# Altium schematic symbol library AD9959_V1_Library.SchLib: 19 symbols
Pins are listed as number, name and electrical type; pins without a type are passive.

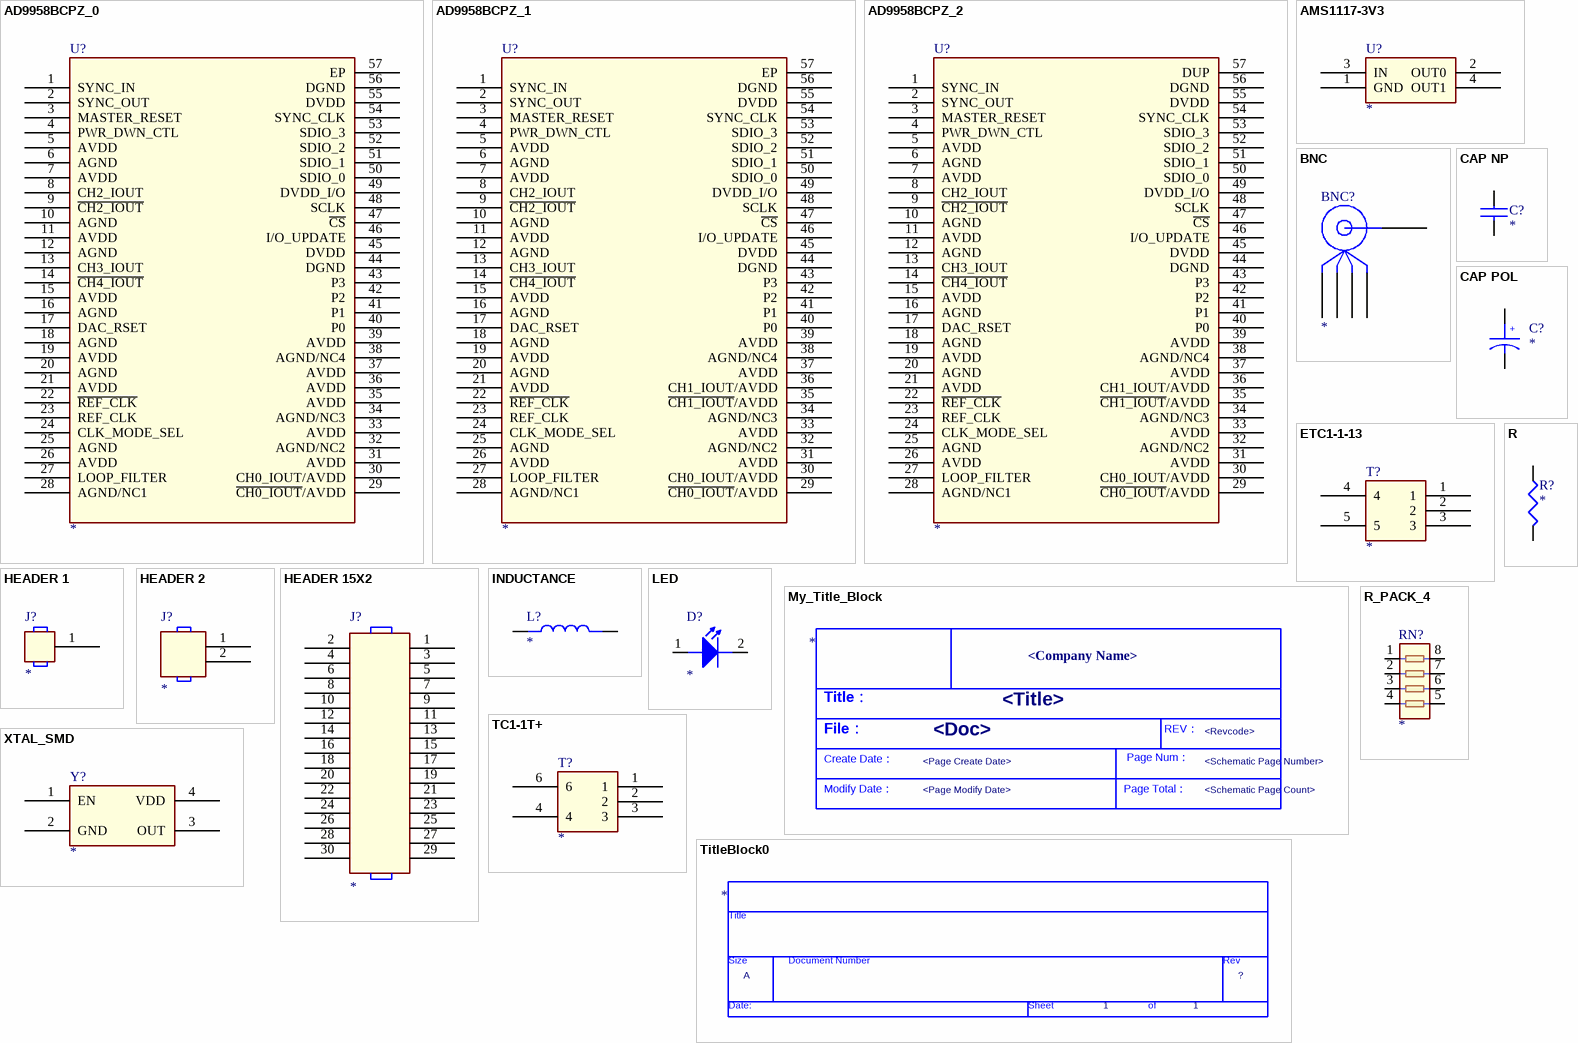
[diagram p0: symbols AD9958BCPZ_0 to XTAL_SMD]

## AD9958BCPZ_0
designator U?
pins: 1 SYNC_IN, 2 SYNC_OUT, 3 MASTER_RESET, 4 PWR_DWN_CTL, 5 AVDD (power), 6 AGND (power), 7 AVDD (power), 8 CH2_IOUT, 9 ~{CH2_IOUT}, 10 AGND (power), 11 AVDD (power), 12 AGND (power), 13 CH3_IOUT, 14 ~{CH4_IOUT}, 15 AVDD (power), 16 AGND (power), 17 DAC_RSET, 18 AGND (power), 19 AVDD (power), 20 AGND (power), 21 AVDD (power), 22 ~{REF_CLK}, 23 REF_CLK, 24 CLK_MODE_SEL, 25 AGND (power), 26 AVDD (power), 27 LOOP_FILTER, 28 AGND/NC1 (power), 29 ~{CH0_IOUT}/AVDD (power), 30 CH0_IOUT/AVDD (power), 31 AVDD (power), 32 AGND/NC2 (power), 33 AVDD (power), 34 AGND/NC3, 35 AVDD (power), 36 AVDD (power), 37 AVDD (power), 38 AGND/NC4, 39 AVDD (power), 40 P0, 41 P1, 42 P2, 43 P3, 44 DGND (power), 45 DVDD (power), 46 I/O_UPDATE, 47 ~{CS}, 48 SCLK, 49 DVDD_I/O (power), 50 SDIO_0, 51 SDIO_1, 52 SDIO_2, 53 SDIO_3, 54 SYNC_CLK, 55 DVDD (power), 56 DGND (power), 57 EP (power)

## AD9958BCPZ_1
designator U?
pins: 1 SYNC_IN, 2 SYNC_OUT, 3 MASTER_RESET, 4 PWR_DWN_CTL, 5 AVDD (power), 6 AGND (power), 7 AVDD (power), 8 CH2_IOUT, 9 ~{CH2_IOUT}, 10 AGND (power), 11 AVDD (power), 12 AGND (power), 13 CH3_IOUT, 14 ~{CH4_IOUT}, 15 AVDD (power), 16 AGND (power), 17 DAC_RSET, 18 AGND (power), 19 AVDD (power), 20 AGND (power), 21 AVDD (power), 22 ~{REF_CLK}, 23 REF_CLK, 24 CLK_MODE_SEL, 25 AGND (power), 26 AVDD (power), 27 LOOP_FILTER, 28 AGND/NC1 (power), 29 ~{CH0_IOUT}/AVDD (power), 30 CH0_IOUT/AVDD (power), 31 AVDD (power), 32 AGND/NC2 (power), 33 AVDD (power), 34 AGND/NC3, 35 ~{CH1_IOUT}/AVDD (power), 36 CH1_IOUT/AVDD (power), 37 AVDD (power), 38 AGND/NC4, 39 AVDD (power), 40 P0, 41 P1, 42 P2, 43 P3, 44 DGND (power), 45 DVDD (power), 46 I/O_UPDATE, 47 ~{CS}, 48 SCLK, 49 DVDD_I/O (power), 50 SDIO_0, 51 SDIO_1, 52 SDIO_2, 53 SDIO_3, 54 SYNC_CLK, 55 DVDD (power), 56 DGND (power), 57 EP (power)

## AD9958BCPZ_2
designator U?
pins: 1 SYNC_IN, 2 SYNC_OUT, 3 MASTER_RESET, 4 PWR_DWN_CTL, 5 AVDD (power), 6 AGND (power), 7 AVDD (power), 8 CH2_IOUT, 9 ~{CH2_IOUT}, 10 AGND (power), 11 AVDD (power), 12 AGND (power), 13 CH3_IOUT, 14 ~{CH4_IOUT}, 15 AVDD (power), 16 AGND (power), 17 DAC_RSET, 18 AGND (power), 19 AVDD (power), 20 AGND (power), 21 AVDD (power), 22 ~{REF_CLK}, 23 REF_CLK, 24 CLK_MODE_SEL, 25 AGND (power), 26 AVDD (power), 27 LOOP_FILTER, 28 AGND/NC1 (power), 29 ~{CH0_IOUT}/AVDD (power), 30 CH0_IOUT/AVDD (power), 31 AVDD (power), 32 AGND/NC2 (power), 33 AVDD (power), 34 AGND/NC3, 35 ~{CH1_IOUT}/AVDD (power), 36 CH1_IOUT/AVDD (power), 37 AVDD (power), 38 AGND/NC4, 39 AVDD (power), 40 P0, 41 P1, 42 P2, 43 P3, 44 DGND (power), 45 DVDD (power), 46 I/O_UPDATE, 47 ~{CS}, 48 SCLK, 49 DVDD_I/O (power), 50 SDIO_0, 51 SDIO_1, 52 SDIO_2, 53 SDIO_3, 54 SYNC_CLK, 55 DVDD (power), 56 DGND (power), 57 DUP (power)

## AMS1117-3V3
designator U?
pins: 1 GND (power), 2 OUT0, 3 IN, 4 OUT1

## BNC
designator BNC?
footprint bnc5_2r54_7x7_sm_v
pins: 1, 2 GND (power), 3 GND (power), 4 GND (power), 5 GND (power)

## CAP NP
designator C?
pins: 1, 2

## CAP POL
designator C?
pins: 1, 2
text: +

## ETC1-1-13
designator T?
pins: 1, 2, 3, 4, 5

## HEADER 1
designator J?
pins: 1

## HEADER 2
designator J?
pins: 1, 2

## HEADER 15X2
designator J?
pins: 1, 2, 3, 4, 5, 6, 7, 8, 9, 10, 11, 12, 13, 14, 15, 16, 17, 18, 19, 20, 21, 22, 23, 24, 25, 26, 27, 28, 29, 30

## INDUCTANCE
designator L?
pins: 1, 2

## LED
designator D?
pins: 1 A, 2 K

## My_Title_Block
designator *  Company Name: <Company Name>  Schematic Page Count: <Schematic Page Count>  Schematic Page Number: <Schematic Page Number>  Page Modify Date: <Page Modify Date>  Page Create Date: <Page Create Date>  Revcode: <Revcode>  File: <Doc>  Title: <Title>  (graphical)
text: Title：; REV：; File：; Create Date：; Page Num：; Modify Date：; Page Total：

## R
designator R?
pins: 1, 2

## R_PACK_4
designator RN?
pins: 1, 2, 3, 4, 5, 6, 7, 8

## TC1-1T+
designator T?
pins: 1, 2, 3, 4, 6

## TitleBlock0
designator *  Page Size: A  Page Number: 1  (graphical)
Page Create Date: March  8, 1995; RevCode: ?; Page Count: 1
text: Title; Size; Document Number; Rev; Date:; Sheet; of

## XTAL_SMD
designator Y?
pins: 1 EN, 2 GND (power), 3 OUT, 4 VDD (power)